# EAGLE library part CONNECTOR-14_?_* (library HyTechDevices_temp)
14 pin connector
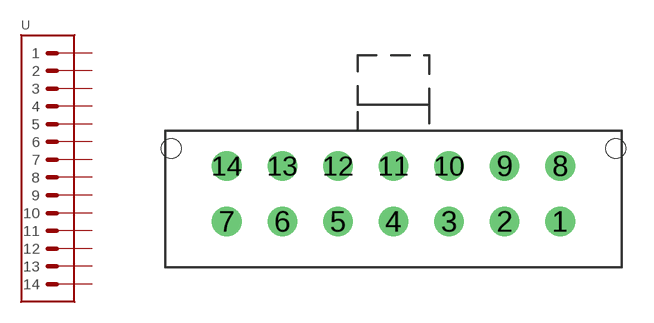
[diagram p4: symbol with the pads of MOLEX_MICROFIT_PTH_VERTICAL_14_DUAL; footprint MOLEX_MICROFIT_PTH_VERTICAL_14_DUAL]

Designator prefix -

## CONNECTOR-14_MF_T_V_ (MANUFACTURER: MOLEX; MPN: 430451414)  [MOLEX_MICROFIT_PTH_VERTICAL_14_DUAL]
1  1  pas
2  2  pas
3  3  pas
4  4  pas
5  5  pas
6  6  pas
7  7  pas
8  8  pas
9  9  pas
10  10  pas
11  11  pas
12  12  pas
13  13  pas
14  14  pas

## Footprint MOLEX_MICROFIT_PTH_VERTICAL_14_DUAL (pad centres in mm)
14 Pin Micro-Fit Vertical Header, Through-Hole, Dual Row Part <https://www.molex.com/molex/products/part-detail/pcb_headers/0430451414> Footprint <https://www.molex.com/pdm_docs/sd/430451414_sd.pdf> Plug Size <https://www.molex.com/pdm_docs/sd/430251400_sd.pdf>
drill 1.067: 1 8.992,-2.997; 2 5.994,-2.997; 3 2.997,-2.997; 4 0,-2.997; 5 -2.997,-2.997; 6 -5.994,-2.997; 7 -8.992,-2.997; 8 8.992,0; 9 5.994,0; 10 2.997,0; 11 0,0; 12 -2.997,0; 13 -5.994,0; 14 -8.992,0
hole 1.067 at 11.989,0.94
hole 1.067 at -11.989,0.94